# Altium schematic symbol library Teststand.SchLib: 9 symbols
Pins are listed as number, name and electrical type; pins without a type are passive.

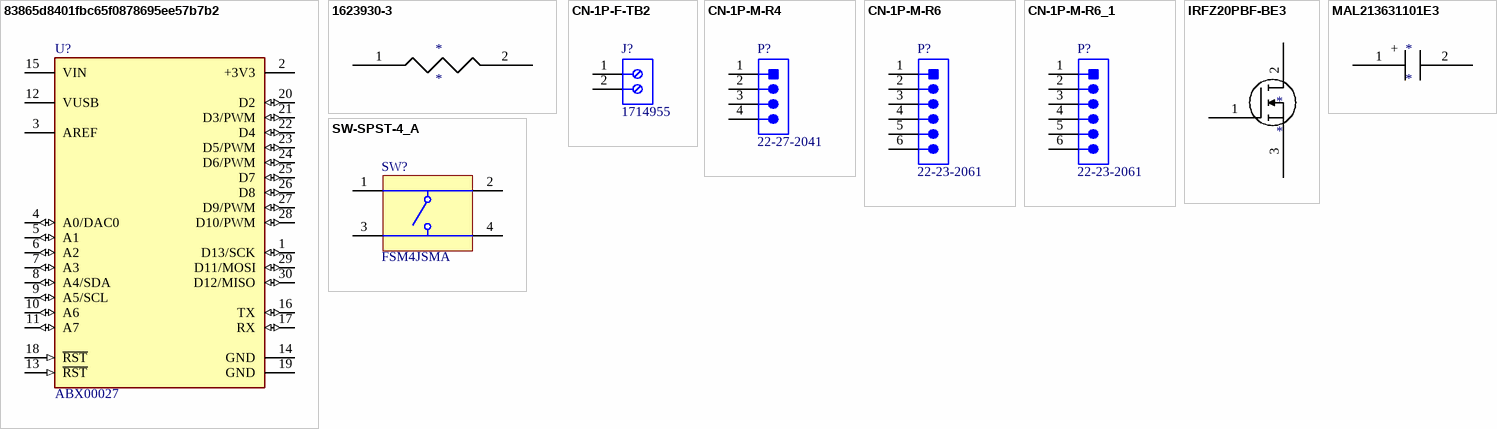
[diagram p0: symbols 83865d8401fbc65f0878695ee57b7b2 to SW-SPST-4_A]

## 83865d8401fbc65f0878695ee57b7b2
designator U?, comment ABX00027
ARDUINO NANO 33 IOT; Number Of Usb Channels: 1; Memory Size: 256KBytes; Interface: I2C,SPI,UART,USB,Other; Number Of Timers/Counters: 5; Memory Type: FLASH; Frequency: 48MHz; Data Bus Width: 32bits; Number Of I/Os: 23; Min Supply Voltage: 4.5V; Core Architecture: ARM Cortex-M0+; Ram Size: 32KBytes; Number Of Adc Channels: 8; Max Supply Voltage: 21V; Description: Development Boards - ARM Arduino Nano 33 IoT; Manufacturer Part Number: ABX00027; RoHS: TRUE; Automotive: No; Footprint Url: https://content.arduino.cc/assets/Nano33IoT.zip; Number Of A/D Converters: 1; Device Class L3: Microcontrollers; Manufacturer: Arduino; Number Of Spi Channels: 1; Ipc Land Pattern Name: DFN4400X1778X80-30; Category: IC; Number Of Cores: 1; Package: 0; ComponentLink2URL: https://store.arduino.cc/arduino-nano-33-iot; ComponentLink2Description: Datasheet; Digikey Description: ARDUINO NANO 33 IOT; Number Of Uart Channels: 1; Lead Free: Yes; Address Bus Width: 32bits; Device Class L2: Embedded Processors and Controllers; Octopart: https://octopart.com/abx00027-arduino-102769437; Number Of Pwm Channels: 5; Number Of I2C Channels: 1; Device Class L1: Integrated Circuits (ICs)
footprint FP-ABX00027-MFG
pins: 1 D13/SCK (io), 2 +3V3 (power), 3 AREF, 4 A0/DAC0 (io), 5 A1 (io), 6 A2 (io), 7 A3 (io), 8 A4/SDA (io), 9 A5/SCL (io), 10 A6 (io), 11 A7 (io), 12 VUSB (power), 13 ~{RST} (in), 14 GND (power), 15 VIN (power), 16 TX (io), 17 RX (io), 18 ~{RST} (in), 19 GND (power), 20 D2 (io), 21 D3/PWM (io), 22 D4 (io), 23 D5/PWM (io), 24 D6/PWM (io), 25 D7 (io), 26 D8 (io), 27 D9/PWM (io), 28 D10/PWM (io), 29 D11/MOSI (io), 30 D12/MISO (io)

## 1623930-3
designator *
Through Hole Carbon Film Resistor, Cfr Series, 10 Kohm, 330 Mw, - 5%, 250 V, Axial Leaded; Manufacturer: TE Connectivity; Manufacturer Part Number: 1623930-3; Supplier 1: Mouser; RoHS: Yes; Category: Through-Hole Resistors; Stock 1: 22275; Pricing 1: 10000=0,01100 (USD); ComponentLink1URL: https://datasheet.ciiva.com/6530/eng-cd-1623930-ba-6530837.pdf?src-supplier=Digi-Key; ComponentLink1Description: https://datasheet.ciiva.com/6530/eng-cd-1623930-ba-6530837.pdf?src-supplier=Digi-Key; ComponentLink2URL: https://datasheet.ciiva.com/8332/eng-ds-1773195-d-8332127.pdf?src-supplier=Avnet; ComponentLink2Description: https://datasheet.ciiva.com/8332/eng-ds-1773195-d-8332127.pdf?src-supplier=Avnet; Supplier Part Number 1: 279-CFR25J10K
pins: 1, 2

## CN-1P-F-TB2
designator J?, comment 1714955
PC Terminal Block, Pitch 6.35 mm, 1 x 2 Position, Height 21.5 mm, Tail Lenght 5.1 mm, RoHS, Bulk; Manufacturer: Phoenix Contact; Package Description: PC Terminal Block, Pitch 6.35 mm, 1 x 2 Position, Height 21.5 mm, Tail Lenght 5.1 mm; Datasheet URL: http://media.digikey.com/pdf/Data%20Sheets/Phoenix%20Contact%20PDFs/1714955.pdf; Package Reference: 1714955; Manufacturer URL: http://www.phoenixcontact.com/; Datasheet Version: 02/2010; Mounting Technology: ThroughHole
footprint PHOE-1714955_V (Terminal Block, 2-Leads, Body 12.7x12.5mm, Pitch 6.35mm)
pins: 1, 2

## CN-1P-M-R4
designator P?, comment 22-27-2041
Male Header, Pitch 2.54 mm, 1 x 4 Position, Height 11.7 mm, Tail Length 3.56 mm, RoHS, Bulk; Manufacturer: Molex; Voltage rating: 250V; Current rating: 4A; Datasheet Version: Rev. F, 06/2009; Operating temperature: 0degCto+75degC; Contact material: Tinplatedbrass; Manufacturer URL: http://www.molex.com/; Housing material: Nylon(UL94V-0); Datasheet URL: http://www.molex.com/pdm_docs/sd/022272041_sd.pdf
footprint MOLX-22-27-2041_V (CONN, 4-Leads, Body 10.16x5.8mm, Pitch 2.54mm)
pins: 1, 2, 3, 4

## CN-1P-M-R6
designator P?, comment 22-23-2061
Male Header, Pitch 2.54 mm, 1 x 6 Position, Height 10.67 mm, Tail Length 3.56 mm, 0 to 70 degC, RoHS, Bulk; Manufacturer: Molex; Pitch: 2.54mm; Mounting Angle: Vertical; Current Rating: 4A; Number of Positions / Contacts: 6; Voltage Rating: 250V; Packaging: Bulk; Package Description: Male Header, Pitch 2.54 mm, 1 x 6 Position, Height 10.67 mm, Tail Length 3.56 mm; Number of Rows: 1; Type: PinStrip; Contact Material: Brass; Product Category: .100K.K.Connectors; Factory Pack Quantity: 1000; Mounting Style: ThroughHole; RoHS: Details; Contact Plating: Tin; Housing Material: Nylon; Mounting Technology: ThroughHole; Termination Style: ThroughHole; Tradename: KK; Number of Positions: 6; Brand: Molex; Product Type: Headers; Series: 6373; Datasheet URL: https://datasheet.ciiva.com/19460/232303-19460895.pdf; Package Reference: 22-23-2061; Datasheet Version: Rev. P, 09/2001; Manufacturer URL: http://www.molex.com/
footprint MOLX-22-23-2061_V (THD, 6-Leads, Body 15.24x6.35mm, Pitch 2.54mm)
pins: 1, 2, 3, 4, 5, 6

## CN-1P-M-R6_1
designator P?, comment 22-23-2061
Male Header, Pitch 2.54 mm, 1 x 6 Position, Height 10.67 mm, Tail Length 3.56 mm, 0 to 70 degC, RoHS, Bulk; Manufacturer: Molex; Pitch: 2.54mm; Mounting Angle: Vertical; Current Rating: 4A; Number of Positions / Contacts: 6; Voltage Rating: 250V; Packaging: Bulk; Package Description: Male Header, Pitch 2.54 mm, 1 x 6 Position, Height 10.67 mm, Tail Length 3.56 mm; Number of Rows: 1; Type: PinStrip; Contact Material: Brass; Product Category: .100K.K.Connectors; Factory Pack Quantity: 1000; Mounting Style: ThroughHole; RoHS: Details; Contact Plating: Tin; Housing Material: Nylon; Mounting Technology: ThroughHole; Termination Style: ThroughHole; Tradename: KK; Number of Positions: 6; Brand: Molex; Product Type: Headers; Series: 6373; Datasheet URL: https://datasheet.ciiva.com/19460/232303-19460895.pdf; Package Reference: 22-23-2061; Datasheet Version: Rev. P, 09/2001; Manufacturer URL: http://www.molex.com/
footprint MOLX-22-23-2061_V (THD, 6-Leads, Body 15.24x6.35mm, Pitch 2.54mm)
pins: 1, 2, 3, 4, 5, 6

## IRFZ20PBF-BE3
designator *
Transistor MOSFET N-Channel 50V 15A 3-Pin TO-220AB; Manufacturer: Vishay; Manufacturer Part Number: IRFZ20PBF-BE3; Supplier 1: Mouser; RoHS: No; Category: Uncategorized; Stock 1: 1890; Pricing 1: 1=1,99000, 10=1,79000, 25=1,73000, 50=1,73000, 100=1,40000, 500=1,15000, 1000=1,04000, 2000=1,01000, 10000=1,01000 (USD); Supplier Part Number 1: 78-IRFZ20PBF-BE3
pins: 1 G, 2 D, 3 S

## MAL213631101E3
designator *
Cap Aluminum 100uF 50V 20% (10 X 12mm) Radial 5mm 480mA 4000h 105C Ammo Pack; Manufacturer: Vishay Semiconductors; Manufacturer Part Number: MAL213631101E3; Polarity: Polar; Impedance: 200mR; Life (Hours): 4000Hour; Lead Diameter: 0.6mm; Supplier 1: Mouser; RoHS: Yes; Category: Aluminum Electrolytic Capacitors; Stock 1: 1755; Pricing 1: 1=1,48000, 10=1,17000, 50=1,02000, 100=0,87800, 500=0,62400, 800=0,59300, 1000=0,59300, 10000=0,59300 (USD); Mount: Through Hole; Case/Package: Radial; Min Operating Temperature: -55°C; Max Operating Temperature: 105°C; Capacitance: 100uF; Tolerance: 20%; Ripple Current: 480mA; Package Quantity: 800; Packaging: Tape and Reel; Voltage Rating: 50V; Termination: Radial; Series: 136 RVI; Diameter: 10mm; Height: 12mm; Lead Pitch: 5mm; Height - Seated (Max): 0.53inch; Radiation Hardening: No; RoHS Compliant: Yes; ComponentLink1URL: https://datasheet.ciiva.com/11704/136rvi-11704343.pdf?src-supplier=Avnet; ComponentLink1Description: https://datasheet.ciiva.com/11704/136rvi-11704343.pdf?src-supplier=Avnet; Supplier Part Number 1: 594-MAL213631101E3
pins: 1 +, 2 -

## SW-SPST-4_A
designator SW?, comment FSM4JSMA
Swicth, SPST, 24 V, -35 to 85 degC, 4-Pin SMD, RoHS, Tape and Reel; Manufacturer: TE Connectivity; Switch Travel: 0.25mm; Mechanical Life: 100000Cycles; Contact Current Rating: 50mA; Operating Force: 1.57N; Actuator Material: Polyamide; Contact Resistance: 100mOhm; Voltage Rating: 24V; Illumination Type: Illuminated; Actuator Length: 0.055inch; Max Voltage Rating (DC): 12V; Case\/Package: SMD/SMT; Orientation: Straight; Datasheet URL: http://www.te.com/commerce/DocumentDelivery/DDEController?Action=showdoc&DocId=Customer+Drawing%7F2-1437565-7%7FV%7Fpdf%7FEnglish%7FENG_CD_2-1437565-7_V.pdf%7F4-1437565-2; Min Operating Temperature: -35degC; Packaging: LoosePiece; Termination: GullWing; Throw Configuration: SPST; Package Description: 4-Pin Surface Mount Device, Body 6 x 6 mm, Pitch 4.5 mm; Mounting Technology: SurfaceMount; Contact Plating: Silver; Datasheet Version: Rev. V, 02/2015; RoHSCompliant: true; Max Operating Temperature: 85degC; Length: 6mm; Voltage Rating (DC): 24V; Electrical Life: 100000Cycles; Current Rating: 50mA; Package Quantity: 750; Mount: SurfaceMount; Package Reference: FSM4JSMA; Manufacturer URL: http://www.te.com/; Width: 6mm; REACH SVHC: Unknown; Contact Material: CopperAlloy
footprint TECO-FSM4JSMA_V (SMD, 4-Leads, Body 6x6mm, Pitch 4.5mm)
pins: 1, 2, 3, 4